# EAGLE library part IN-1 (library NixieTube)
IN-1: large numeric topview nixie tube
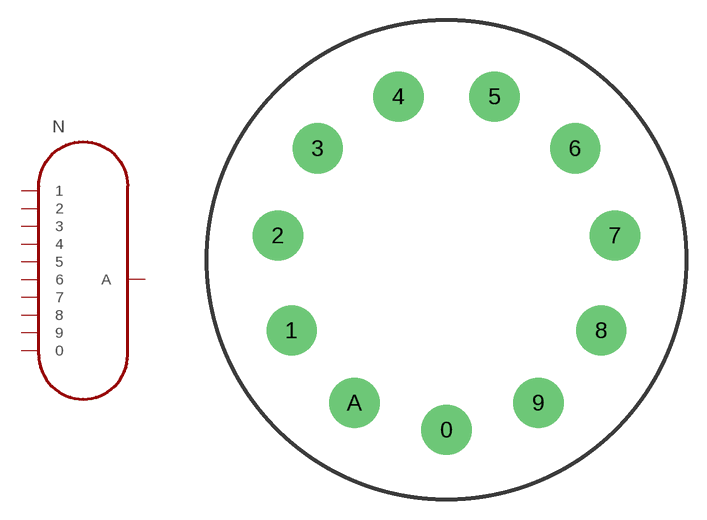
[diagram p9: symbol with the pads of IN-1; footprint IN-1]

Designator prefix N

## IN-1  [IN-1]
0  0
1  1
2  2
3  3
4  4
5  5
6  6
7  7
8  8
9  9
A  A

## Footprint IN-1 (pad centres in mm)
May be used with socket: U11
drill 2.667: 0 0,-12.483; 1 -11.355,-5.186; 2 -12.356,1.776; 3 -9.434,8.175; 4 -3.517,11.977; 5 3.517,11.977; 6 9.434,8.175; 7 12.356,1.776; 8 11.355,-5.186; 9 6.749,-10.501; A -6.749,-10.501